# Altium footprint library 5510207004F.PcbLib: 1 footprints
Each footprint in its own frame and in the unit in brackets; x right, y up, seen from the top. Pads: shape width x height; smd on the part's side, far side on the other; paste and mask are expansions set on the pad; w line width, h text height; cw(c..) or ccw(c..) is an arc to the next point about the centre after c.
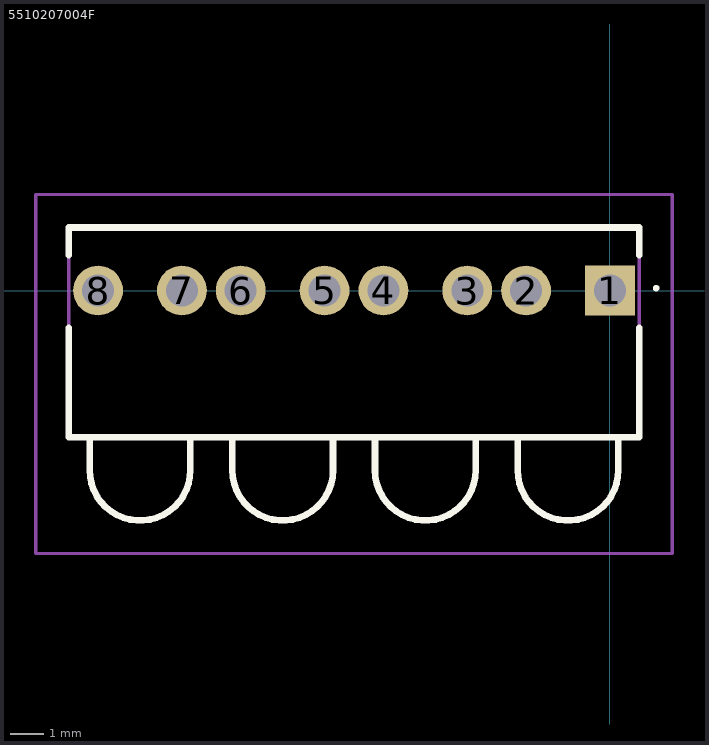
[diagram p0: the footprint, top view; thin cyan lines are the x and y axes]

## 5510207004F [mm]
pads (8):
  rect 1.509x1.509 hole 0.97: 1(0,0)
  round 1.509 hole 0.97: 2(-2.54,0) 3(-4.32,0) 4(-6.86,0) 5(-8.64,0) 6(-11.18,0) 7(-12.96,0) 8(-15.5,0)
Top Overlay:
  lines w0.1: 1.35,0.072 cw(c1.4,0.072) 1.45,0.072 ; 1.35,0.072 1.35,0.072 ; 1.35,0.072 ccw(c1.4,0.072) 1.45,0.072 ; 1.45,0.072 1.45,0.072
  lines w0.2: -16.385,-1.128 -16.385,-4.44 0.885,-4.44 0.885,-1.128 ; -16.385,1.072 -16.385,1.91 0.885,1.91 0.885,1.072 ; -15.755,-4.44 -15.755,-5.44 ccw(c-14.23,-5.44) -12.705,-5.44 ; -12.705,-4.44 -12.705,-5.44 ; -11.435,-4.44 -11.435,-5.44 ccw(c-9.91,-5.44) -8.385,-5.44 ; -8.385,-4.44 -8.385,-5.44 ; -7.115,-4.44 -7.115,-5.44 ccw(c-5.59,-5.44) -4.065,-5.44 ; -4.065,-4.44 -4.065,-5.44 ; -2.795,-4.44 -2.795,-5.44 ccw(c-1.27,-5.44) 0.255,-5.44 ; 0.255,-4.44 0.255,-5.44 ; -12.705,-5.44 -12.705,-5.44 ; -8.385,-5.44 -8.385,-5.44 ; -4.065,-5.44 -4.065,-5.44 ; 0.255,-5.44 0.255,-5.44
Mechanical 15:
  lines w0.1: -15.755,-4.44 -15.755,-5.44 ccw(c-14.23,-5.44) -12.705,-5.44 ; -12.705,-4.44 -12.705,-5.44 ; -11.435,-4.44 -11.435,-5.44 ccw(c-9.91,-5.44) -8.385,-5.44 ; -8.385,-4.44 -8.385,-5.44 ; -7.115,-4.44 -7.115,-5.44 ccw(c-5.59,-5.44) -4.065,-5.44 ; -4.065,-4.44 -4.065,-5.44 ; -2.795,-4.44 -2.795,-5.44 ccw(c-1.27,-5.44) 0.255,-5.44 ; 0.255,-4.44 0.255,-5.44 ; -12.705,-5.44 -12.705,-5.44 ; -8.385,-5.44 -8.385,-5.44 ; -4.065,-5.44 -4.065,-5.44 ; 0.255,-5.44 0.255,-5.44 ; -16.385,-4.44 -16.385,1.91 0.885,1.91 0.885,-4.44 -16.385,-4.44
Mechanical 20:
  lines w0.1: -17.385,-7.965 -17.385,2.91 1.885,2.91 1.885,-7.965 -17.385,-7.965